# Altium footprint library L_15nH.PcbLib: 1 footprints
Each footprint in its own frame and in the unit in brackets; x right, y up, seen from the top. Pads: shape width x height; smd on the part's side, far side on the other; paste and mask are expansions set on the pad; w line width, h text height; cw(c..) or ccw(c..) is an arc to the next point about the centre after c.
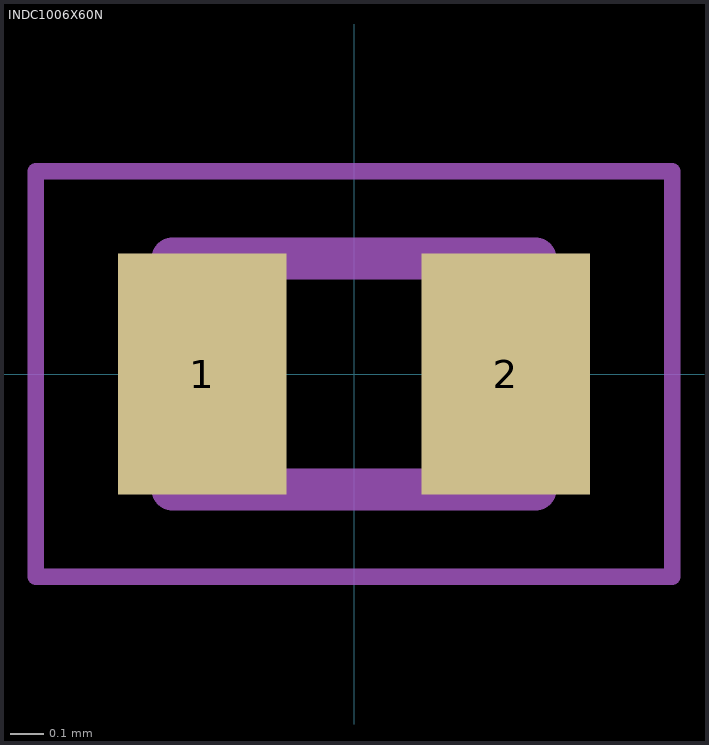
[diagram p0: the footprint, top view; thin cyan lines are the x and y axes]

## INDC1006X60N [mm]
pads (2):
  rect 0.51x0.73 smd: 1(-0.46,0) 2(0.46,0)
Mechanical 13:
  lines w0.127: -0.55,-0.35 0.55,-0.35 0.55,0.35 -0.55,0.35 -0.55,-0.35
Mechanical 15:
  lines w0.05: -0.965,-0.615 0.965,-0.615 0.965,0.615 -0.965,0.615 -0.965,-0.615
3D body "bobina.STEP": height 0.6, standoff 0, extent -0.5,-0.254 0.5,0.246